# Altium footprint library 2uF-1000V.PcbLib: 2 footprints
Each footprint in its own frame and in the unit in brackets; x right, y up, seen from the top. Pads: shape width x height; smd on the part's side, far side on the other; paste and mask are expansions set on the pad; w line width, h text height; cw(c..) or ccw(c..) is an arc to the next point about the centre after c.
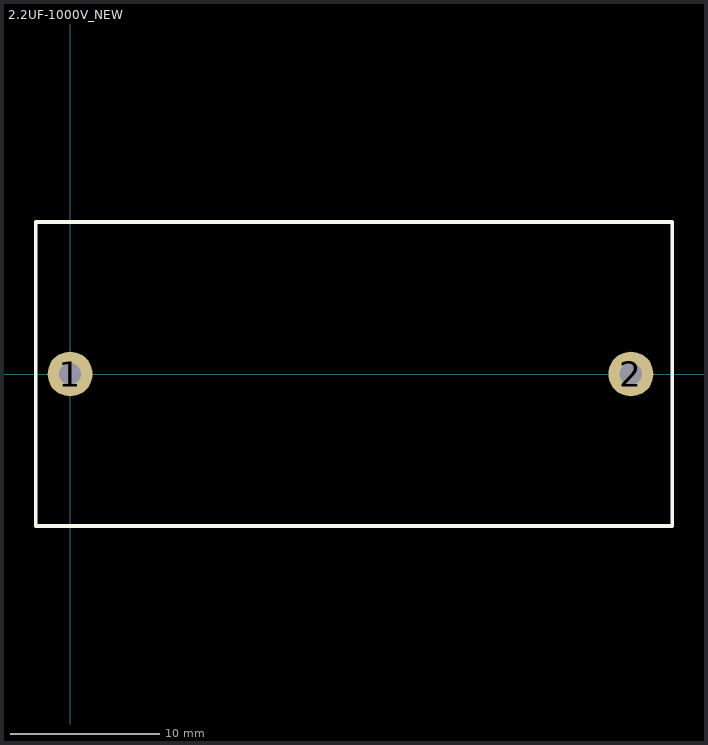
[diagram p0: the footprints below, top view; thin cyan lines are the x and y axes]

## 2.2UF-1000V_NEW [mm]
pads (2):
  round 3 hole 1.5: 1(0,0) 2(37.5,0)
Top Overlay:
  lines w0.254: -2.286,-10.16 -2.286,10.16 40.259,10.16 40.259,-10.16 -2.286,-10.16

## PCBComponent_1 [mm]